# Altium footprint library EE490.PcbLib: 59 footprints (part 2 of 4)
Each footprint in its own frame and in the unit in brackets; x right, y up, seen from the top. Pads: shape width x height; smd on the part's side, far side on the other; paste and mask are expansions set on the pad; w line width, h text height; cw(c..) or ccw(c..) is an arc to the next point about the centre after c.
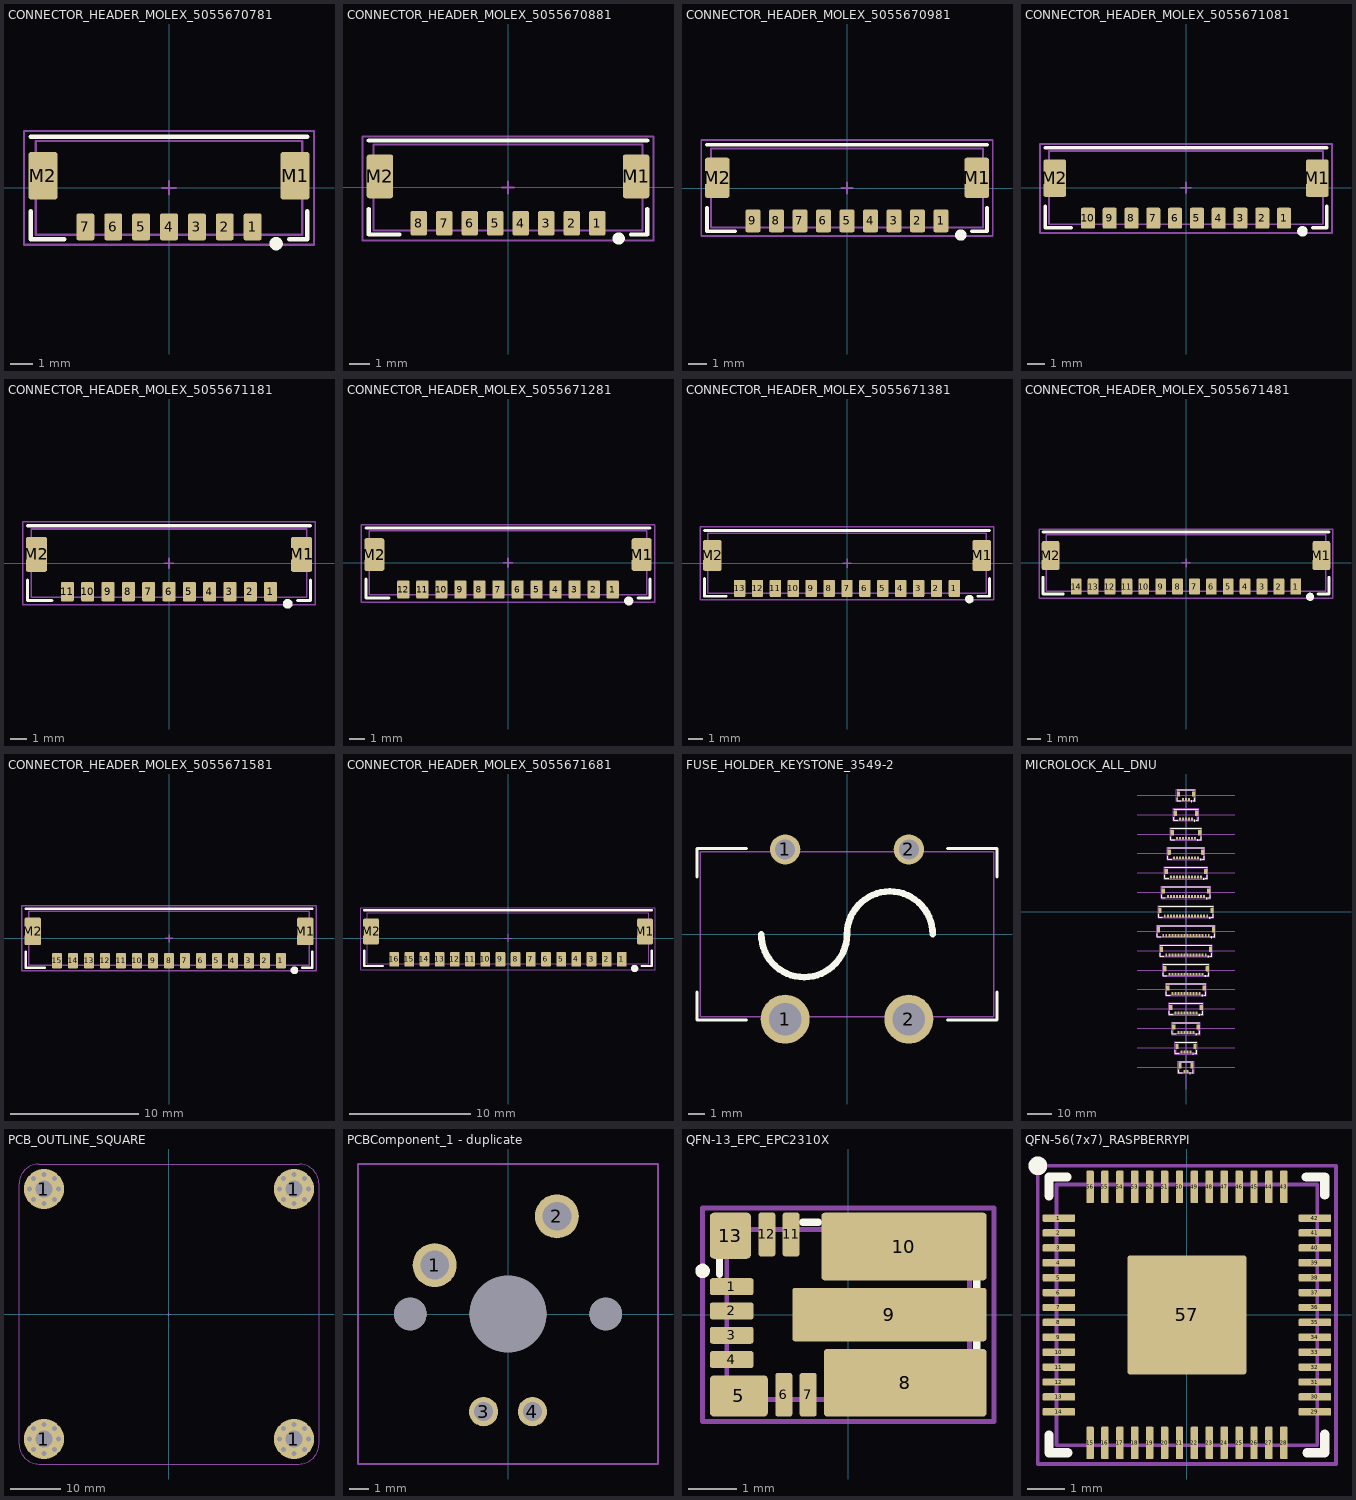
[diagram p1: the footprints below, top view; thin cyan lines are the x and y axes]

## CONNECTOR_HEADER_MOLEX_5055670781 [mm]
pads (9):
  rrect20% 0.8x1.2 smd: 1(3.75,-1.75) 2(2.5,-1.75) 3(1.25,-1.75) 4(0,-1.75) 5(-1.25,-1.75) 6(-2.5,-1.75) 7(-3.75,-1.75)
  rrect20% 1.3x2.15 smd mask+0.076: M1(5.65,0.545) M2(-5.65,0.545)
Top Overlay:
  circle w0.3: c4.8,-2.5 r0.15
  lines w0.2: -6.2,-1.05 -6.2,-2.3 -4.7,-2.3 ; -6.2,2.3 6.2,2.3 ; 5.4,-2.3 6.2,-2.3 6.2,-1.05
Top Component Center:
  lines w0.1: -0.3,0 0.3,0 ; 0,-0.3 0,0.3
Top Component Outline:
  lines w0.1: -5.975,-2.1 5.975,-2.1 5.975,2.1 -5.975,2.1 -5.975,-2.1
Top Designator:
  text ".Designator" at -7.589,-0.499 h1.5
Top Courtyard:
  lines w0.1: -6.5,-2.55 6.5,-2.55 6.5,2.55 -6.5,2.55 -6.5,-2.55

## CONNECTOR_HEADER_MOLEX_5055670881 [mm]
pads (10):
  rrect20% 0.8x1.2 smd: 1(4.375,-1.75) 2(3.125,-1.75) 3(1.875,-1.75) 4(0.625,-1.75) 5(-0.625,-1.75) 6(-1.875,-1.75) 7(-3.125,-1.75) 8(-4.375,-1.75)
  rrect20% 1.3x2.15 smd mask+0.076: M1(6.275,0.545) M2(-6.275,0.545)
Top Overlay:
  circle w0.3: c5.425,-2.5 r0.15
  lines w0.2: -6.825,-1.05 -6.825,-2.3 -5.325,-2.3 ; -6.825,2.3 6.825,2.3 ; 6.025,-2.3 6.825,-2.3 6.825,-1.05
Top Component Center:
  lines w0.1: -0.3,0 0.3,0 ; 0,-0.3 0,0.3
Top Component Outline:
  lines w0.1: -6.6,-2.1 6.6,-2.1 6.6,2.1 -6.6,2.1 -6.6,-2.1
Top Designator:
  text ".Designator" at -7.589,-0.499 h1.5
Top Courtyard:
  lines w0.1: -7.125,-2.6 7.125,-2.6 7.125,2.5 -7.125,2.5 -7.125,-2.6

## CONNECTOR_HEADER_MOLEX_5055670981 [mm]
pads (11):
  rrect20% 0.8x1.2 smd: 1(5,-1.75) 2(3.75,-1.75) 3(2.5,-1.75) 4(1.25,-1.75) 5(0,-1.75) 6(-1.25,-1.75) 7(-2.5,-1.75) 8(-3.75,-1.75) 9(-5,-1.75)
  rrect20% 1.3x2.15 smd mask+0.076: M1(6.9,0.545) M2(-6.9,0.545)
Top Overlay:
  circle w0.3: c6.05,-2.5 r0.15
  lines w0.2: -7.45,-1.05 -7.45,-2.3 -5.95,-2.3 ; -7.45,2.3 7.45,2.3 ; 6.65,-2.3 7.45,-2.3 7.45,-1.05
Top Component Center:
  lines w0.1: -0.3,0 0.3,0 ; 0,-0.3 0,0.3
Top Component Outline:
  lines w0.1: -7.225,-2.1 7.225,-2.1 7.225,2.1 -7.225,2.1 -7.225,-2.1
Top Designator:
  text ".Designator" at -7.589,-0.499 h1.5
Top Courtyard:
  lines w0.1: -7.75,-2.55 -7.75,2.55 7.75,2.55 7.75,-2.55 -7.75,-2.55

## CONNECTOR_HEADER_MOLEX_5055671081 [mm]
pads (12):
  rrect20% 0.8x1.2 smd: 1(5.625,-1.75) 2(4.375,-1.75) 3(3.125,-1.75) 4(1.875,-1.75) 5(0.625,-1.75) 6(-0.625,-1.75) 7(-1.875,-1.75) 8(-3.125,-1.75) 9(-4.375,-1.75) 10(-5.625,-1.75)
  rrect20% 1.3x2.15 smd mask+0.076: M1(7.525,0.545) M2(-7.525,0.545)
Top Overlay:
  circle w0.3: c6.675,-2.5 r0.15
  lines w0.2: -8.075,-1.05 -8.075,-2.3 -6.575,-2.3 ; -8.075,2.3 8.075,2.3 ; 7.275,-2.3 8.075,-2.3 8.075,-1.05
Top Component Center:
  lines w0.1: -0.3,0 0.3,0 ; 0,-0.3 0,0.3
Top Component Outline:
  lines w0.1: -7.85,-2.1 -7.85,2.1 7.85,2.1 7.85,-2.1 -7.85,-2.1
Top Designator:
  text ".Designator" at -7.589,-0.499 h1.5
Top Courtyard:
  lines w0.1: -8.375,-2.6 -8.375,2.5 8.375,2.5 8.375,-2.6 -8.375,-2.6

## CONNECTOR_HEADER_MOLEX_5055671181 [mm]
pads (13):
  rrect20% 0.8x1.2 smd: 1(6.25,-1.75) 2(5,-1.75) 3(3.75,-1.75) 4(2.5,-1.75) 5(1.25,-1.75) 6(0,-1.75) 7(-1.25,-1.75) 8(-2.5,-1.75) 9(-3.75,-1.75) 10(-5,-1.75) 11(-6.25,-1.75)
  rrect20% 1.3x2.15 smd mask+0.076: M1(8.15,0.545) M2(-8.15,0.545)
Top Overlay:
  circle w0.3: c7.3,-2.5 r0.15
  lines w0.2: -8.7,-1.05 -8.7,-2.3 -7.2,-2.3 ; -8.7,2.3 8.7,2.3 ; 7.9,-2.3 8.7,-2.3 8.7,-1.05
Top Component Center:
  lines w0.1: -0.3,0 0.3,0 ; 0,-0.3 0,0.3
Top Component Outline:
  lines w0.1: -8.475,-2.1 8.475,-2.1 8.475,2.1 -8.475,2.1 -8.475,-2.1
Top Designator:
  text ".Designator" at -7.589,-0.499 h1.5
Top Courtyard:
  lines w0.1: -9,-2.55 9,-2.55 9,2.55 -9,2.55 -9,-2.55

## CONNECTOR_HEADER_MOLEX_5055671281 [mm]
pads (14):
  rrect20% 0.8x1.2 smd: 1(6.875,-1.75) 2(5.625,-1.75) 3(4.375,-1.75) 4(3.125,-1.75) 5(1.875,-1.75) 6(0.625,-1.75) 7(-0.625,-1.75) 8(-1.875,-1.75) 9(-3.125,-1.75) 10(-4.375,-1.75) 11(-5.625,-1.75) 12(-6.875,-1.75)
  rrect20% 1.3x2.15 smd mask+0.076: M1(8.775,0.545) M2(-8.775,0.545)
Top Overlay:
  circle w0.3: c7.925,-2.5 r0.15
  lines w0.2: -9.325,-1.05 -9.325,-2.3 -7.825,-2.3 ; -9.325,2.3 9.325,2.3 ; 8.525,-2.3 9.325,-2.3 9.325,-1.05
Top Component Center:
  lines w0.1: -0.3,0 0.3,0 ; 0,-0.3 0,0.3
Top Component Outline:
  lines w0.1: -9.1,-2.1 -9.1,2.1 9.1,2.1 9.1,-2.1 -9.1,-2.1
Top Designator:
  text ".Designator" at -7.589,-0.499 h1.5
Top Courtyard:
  lines w0.1: -9.625,-2.6 -9.625,2.5 9.625,2.5 9.625,-2.6 -9.625,-2.6

## CONNECTOR_HEADER_MOLEX_5055671381 [mm]
pads (15):
  rrect20% 0.8x1.2 smd: 1(7.5,-1.75) 2(6.25,-1.75) 3(5,-1.75) 4(3.75,-1.75) 5(2.5,-1.75) 6(1.25,-1.75) 7(0,-1.75) 8(-1.25,-1.75) 9(-2.5,-1.75) 10(-3.75,-1.75) 11(-5,-1.75) 12(-6.25,-1.75) 13(-7.5,-1.75)
  rrect20% 1.3x2.15 smd mask+0.076: M1(9.4,0.545) M2(-9.4,0.545)
Top Overlay:
  circle w0.3: c8.55,-2.5 r0.15
  lines w0.2: -9.95,-1.05 -9.95,-2.3 -8.45,-2.3 ; -9.95,2.3 9.95,2.3 ; 9.15,-2.3 9.95,-2.3 9.95,-1.05
Top Component Center:
  lines w0.1: -0.3,0 0.3,0 ; 0,-0.3 0,0.3
Top Component Outline:
  lines w0.1: -9.725,-2.1 -9.725,2.1 9.725,2.1 9.725,-2.1 -9.725,-2.1
Top Designator:
  text ".Designator" at -7.589,-0.499 h1.5
Top Courtyard:
  lines w0.1: -10.25,-2.55 -10.25,2.55 10.25,2.55 10.25,-2.55 -10.25,-2.55

## CONNECTOR_HEADER_MOLEX_5055671481 [mm]
pads (16):
  rrect20% 0.8x1.2 smd: 1(8.125,-1.75) 2(6.875,-1.75) 3(5.625,-1.75) 4(4.375,-1.75) 5(3.125,-1.75) 6(1.875,-1.75) 7(0.625,-1.75) 8(-0.625,-1.75) 9(-1.875,-1.75) 10(-3.125,-1.75) 11(-4.375,-1.75) 12(-5.625,-1.75) 13(-6.875,-1.75) 14(-8.125,-1.75)
  rrect20% 1.3x2.15 smd mask+0.076: M1(10.025,0.545) M2(-10.025,0.545)
Top Overlay:
  circle w0.3: c9.175,-2.5 r0.15
  lines w0.2: -10.575,-1.05 -10.575,-2.3 -9.075,-2.3 ; -10.575,2.3 10.575,2.3 ; 9.775,-2.3 10.575,-2.3 10.575,-1.05
Top Component Center:
  lines w0.1: -0.3,0 0.3,0 ; 0,-0.3 0,0.3
Top Component Outline:
  lines w0.1: -10.35,-2.1 10.35,-2.1 10.35,2.1 -10.35,2.1 -10.35,-2.1
Top Designator:
  text ".Designator" at -7.589,-0.499 h1.5
Top Courtyard:
  lines w0.1: -10.875,-2.6 10.875,-2.6 10.875,2.5 -10.875,2.5 -10.875,-2.6

## CONNECTOR_HEADER_MOLEX_5055671581 [mm]
pads (17):
  rrect20% 0.8x1.2 smd: 1(8.75,-1.75) 2(7.5,-1.75) 3(6.25,-1.75) 4(5,-1.75) 5(3.75,-1.75) 6(2.5,-1.75) 7(1.25,-1.75) 8(0,-1.75) 9(-1.25,-1.75) 10(-2.5,-1.75) 11(-3.75,-1.75) 12(-5,-1.75) 13(-6.25,-1.75) 14(-7.5,-1.75) 15(-8.75,-1.75)
  rrect20% 1.3x2.15 smd mask+0.076: M1(10.65,0.545) M2(-10.65,0.545)
Top Overlay:
  circle w0.3: c9.8,-2.5 r0.15
  lines w0.2: -11.2,-1.05 -11.2,-2.3 -9.7,-2.3 ; -11.2,2.3 11.2,2.3 ; 10.4,-2.3 11.2,-2.3 11.2,-1.05
Top Component Center:
  lines w0.1: -0.3,0 0.3,0 ; 0,-0.3 0,0.3
Top Component Outline:
  lines w0.1: -10.975,-2.1 10.975,-2.1 10.975,2.1 -10.975,2.1 -10.975,-2.1
Top Designator:
  text ".Designator" at -7.589,-0.499 h1.5
Top Courtyard:
  lines w0.1: -11.5,-2.55 11.5,-2.55 11.5,2.55 -11.5,2.55 -11.5,-2.55

## CONNECTOR_HEADER_MOLEX_5055671681 [mm]
pads (18):
  rrect20% 0.8x1.2 smd: 1(9.375,-1.75) 2(8.125,-1.75) 3(6.875,-1.75) 4(5.625,-1.75) 5(4.375,-1.75) 6(3.125,-1.75) 7(1.875,-1.75) 8(0.625,-1.75) 9(-0.625,-1.75) 10(-1.875,-1.75) 11(-3.125,-1.75) 12(-4.375,-1.75) 13(-5.625,-1.75) 14(-6.875,-1.75) 15(-8.125,-1.75) 16(-9.375,-1.75)
  rrect20% 1.3x2.15 smd mask+0.076: M1(11.275,0.545) M2(-11.275,0.545)
Top Overlay:
  circle w0.3: c10.425,-2.5 r0.15
  lines w0.2: -11.825,-1.05 -11.825,-2.3 -10.325,-2.3 ; -11.825,2.3 11.825,2.3 ; 11.025,-2.3 11.825,-2.3 11.825,-1.05
Top Component Center:
  lines w0.1: -0.3,0 0.3,0 ; 0,-0.3 0,0.3
Top Component Outline:
  lines w0.1: -11.6,-2.1 11.6,-2.1 11.6,2.1 -11.6,2.1 -11.6,-2.1
Top Designator:
  text ".Designator" at -7.589,-0.499 h1.5
Top Courtyard:
  lines w0.1: -12.125,-2.6 12.125,-2.6 12.125,2.5 -12.125,2.5 -12.125,-2.6

## FUSE_HOLDER_KEYSTONE_3549-2 [mm]
height 5.8
pads (4):
  round 2.97 hole 1.98: 1(-3.75,-5.15) 2(3.75,-5.15)
  round 1.83 hole 1.22: 1(-3.75,5.15) 2(3.75,5.15)
Top Overlay:
  lines w0.2: -9.1,-3.5 -9.1,-5.2 -6.1,-5.2 ; -9.1,3.5 -9.1,5.2 -6.1,5.2 ; 6.1,-5.2 9.1,-5.2 9.1,-3.5 ; 6.1,5.2 9.1,5.2 9.1,3.5
  lines w0.4: -5.2,0 ccw(c-2.6,0) 0,0 cw(c2.6,0) 5.2,0
Top Component Outline:
  lines w0.1: -8.9,-5 -8.9,5 8.9,5 8.9,-5 -8.9,-5
3D body "3549-2--3DModel-STEP-630548 Color.stp": height 5.79, standoff -3.64, extent -9.085,-5.219 8.949,5.246

## MICROLOCK_ALL_DNU [mm]
pads (165):
  rrect20% 0.8x1.2 smd: 1(0.625,-65.75) 1(1.25,46.25) 1(1.875,-57.75) 1(2.5,38.25) 1(3.125,-49.75) 1(3.75,30.25) 1(4.375,-41.75) 1(5,22.25) 1(5.625,-33.75) 1(6.25,14.25) 1(6.875,-25.75) 1(7.5,6.25) 1(8.125,-17.75) 1(8.75,-1.75) 1(9.375,-9.75) 2(-0.625,-65.75) 2(0,46.25) 2(0.625,-57.75) 2(1.25,38.25) 2(1.875,-49.75) 2(2.5,30.25) 2(3.125,-41.75) 2(3.75,22.25) 2(4.375,-33.75) 2(5,14.25) 2(5.625,-25.75) 2(6.25,6.25) 2(6.875,-17.75) 2(7.5,-1.75) 2(8.125,-9.75) 3(-1.25,46.25) 3(-0.625,-57.75) 3(0,38.25) 3(0.625,-49.75) 3(1.25,30.25) 3(1.875,-41.75) 3(2.5,22.25) 3(3.125,-33.75) 3(3.75,14.25) 3(4.375,-25.75) 3(5,6.25) 3(5.625,-17.75) 3(6.25,-1.75) 3(6.875,-9.75) 4(-1.875,-57.75) 4(-1.25,38.25) 4(-0.625,-49.75) 4(0,30.25) 4(0.625,-41.75) 4(1.25,22.25) 4(1.875,-33.75) 4(2.5,14.25) 4(3.125,-25.75) 4(3.75,6.25) 4(4.375,-17.75) 4(5,-1.75) 4(5.625,-9.75) 5(-2.5,38.25) 5(-1.875,-49.75) 5(-1.25,30.25) 5(-0.625,-41.75) 5(0,22.25) 5(0.625,-33.75) 5(1.25,14.25) 5(1.875,-25.75) 5(2.5,6.25) 5(3.125,-17.75) 5(3.75,-1.75) 5(4.375,-9.75) 6(-3.125,-49.75) 6(-2.5,30.25) 6(-1.875,-41.75) 6(-1.25,22.25) 6(-0.625,-33.75) 6(0,14.25) 6(0.625,-25.75) 6(1.25,6.25) 6(1.875,-17.75) 6(2.5,-1.75) 6(3.125,-9.75) 7(-3.75,30.25) 7(-3.125,-41.75) 7(-2.5,22.25) 7(-1.875,-33.75) 7(-1.25,14.25) 7(-0.625,-25.75) 7(0,6.25) 7(0.625,-17.75) 7(1.25,-1.75) 7(1.875,-9.75) 8(-4.375,-41.75) 8(-3.75,22.25) 8(-3.125,-33.75) 8(-2.5,14.25) 8(-1.875,-25.75) 8(-1.25,6.25) 8(-0.625,-17.75) 8(0,-1.75) 8(0.625,-9.75) 9(-5,22.25) 9(-4.375,-33.75) 9(-3.75,14.25) 9(-3.125,-25.75) 9(-2.5,6.25) 9(-1.875,-17.75) 9(-1.25,-1.75) 9(-0.625,-9.75) 10(-5.625,-33.75) 10(-5,14.25) 10(-4.375,-25.75) 10(-3.75,6.25) 10(-3.125,-17.75) 10(-2.5,-1.75) 10(-1.875,-9.75) 11(-6.25,14.25) 11(-5.625,-25.75) 11(-5,6.25) 11(-4.375,-17.75) 11(-3.75,-1.75) 11(-3.125,-9.75) 12(-6.875,-25.75) 12(-6.25,6.25) 12(-5.625,-17.75) 12(-5,-1.75) 12(-4.375,-9.75) 13(-7.5,6.25) 13(-6.875,-17.75) 13(-6.25,-1.75) 13(-5.625,-9.75) 14(-8.125,-17.75) 14(-7.5,-1.75) 14(-6.875,-9.75) 15(-8.75,-1.75) 15(-8.125,-9.75) 16(-9.375,-9.75)
  rrect20% 1.3x2.15 smd mask+0.076: M1(2.525,-63.455) M1(3.15,48.545) M1(3.775,-55.455) M1(4.4,40.545) M1(5.025,-47.455) M1(5.65,32.545) M1(6.275,-39.455) M1(6.9,24.545) M1(7.525,-31.455) M1(8.15,16.545) M1(8.775,-23.455) M1(9.4,8.545) M1(10.025,-15.455) M1(10.65,0.545) M1(11.275,-7.455) M2(-11.275,-7.455) M2(-10.65,0.545) M2(-10.025,-15.455) M2(-9.4,8.545) M2(-8.775,-23.455) M2(-8.15,16.545) M2(-7.525,-31.455) M2(-6.9,24.545) M2(-6.275,-39.455) M2(-5.65,32.545) M2(-5.025,-47.455) M2(-4.4,40.545) M2(-3.775,-55.455) M2(-3.15,48.545) M2(-2.525,-63.455)
Top Overlay:
  circle w0.3: c1.675,-66.5 r0.15
  circle w0.3: c2.925,-58.5 r0.15
  circle w0.3: c5.425,-42.5 r0.15
  circle w0.3: c7.925,-26.5 r0.15
  circle w0.3: c9.175,-18.5 r0.15
  circle w0.3: c10.425,-10.5 r0.15
  circle w0.3: c3.55,37.5 r0.15
  circle w0.3: c8.55,5.5 r0.15
  circle w0.3: c9.8,-2.5 r0.15
  circle w0.3: c7.3,13.5 r0.15
  circle w0.3: c6.05,21.5 r0.15
  circle w0.3: c4.8,29.5 r0.15
  circle w0.3: c2.3,45.5 r0.15
  circle w0.3: c6.675,-34.5 r0.15
  circle w0.3: c4.175,-50.5 r0.15
  lines w0.2: -11.825,-9.05 -11.825,-10.3 -10.325,-10.3 ; -11.825,-5.7 11.825,-5.7 ; -11.2,-1.05 -11.2,-2.3 -9.7,-2.3 ; -11.2,2.3 11.2,2.3 ; -10.575,-17.05 -10.575,-18.3 -9.075,-18.3 ; -10.575,-13.7 10.575,-13.7 ; -9.95,6.95 -9.95,5.7 -8.45,5.7 ; -9.95,10.3 9.95,10.3 ; -9.325,-25.05 -9.325,-26.3 -7.825,-26.3 ; -9.325,-21.7 9.325,-21.7 ; -8.7,14.95 -8.7,13.7 -7.2,13.7 ; -8.7,18.3 8.7,18.3 ; -8.075,-33.05 -8.075,-34.3 -6.575,-34.3 ; -8.075,-29.7 8.075,-29.7 ; -7.45,22.95 -7.45,21.7 -5.95,21.7 ; -7.45,26.3 7.45,26.3 ; -6.825,-41.05 -6.825,-42.3 -5.325,-42.3 ; -6.825,-37.7 6.825,-37.7 ; -6.2,30.95 -6.2,29.7 -4.7,29.7 ; -6.2,34.3 6.2,34.3 ; -5.575,-49.05 -5.575,-50.3 -4.075,-50.3 ; -5.575,-45.7 5.575,-45.7 ; -4.95,38.95 -4.95,37.7 -3.45,37.7 ; -4.95,42.3 4.95,42.3 ; -4.325,-57.05 -4.325,-58.3 -2.825,-58.3 ; -4.325,-53.7 4.325,-53.7 ; -3.7,46.95 -3.7,45.7 -2.2,45.7 ; -3.7,50.3 3.7,50.3 ; -3.075,-65.05 -3.075,-66.3 -1.575,-66.3 ; -3.075,-61.7 3.075,-61.7 ; 2.275,-66.3 3.075,-66.3 3.075,-65.05 ; 2.9,45.7 3.7,45.7 3.7,46.95 ; 3.525,-58.3 4.325,-58.3 4.325,-57.05 ; 4.15,37.7 4.95,37.7 4.95,38.95 ; 4.775,-50.3 5.575,-50.3 5.575,-49.05 ; 5.4,29.7 6.2,29.7 6.2,30.95 ; 6.025,-42.3 6.825,-42.3 6.825,-41.05 ; 6.65,21.7 7.45,21.7 7.45,22.95 ; 7.275,-34.3 8.075,-34.3 8.075,-33.05 ; 7.9,13.7 8.7,13.7 8.7,14.95 ; 8.525,-26.3 9.325,-26.3 9.325,-25.05 ; 9.15,5.7 9.95,5.7 9.95,6.95 ; 9.775,-18.3 10.575,-18.3 10.575,-17.05 ; 10.4,-2.3 11.2,-2.3 11.2,-1.05 ; 11.025,-10.3 11.825,-10.3 11.825,-9.05
Top Component Center:
  lines w0.1: -0.3,-64 0.3,-64 ; -0.3,-56 0.3,-56 ; -0.3,-48 0.3,-48 ; -0.3,-40 0.3,-40 ; -0.3,-32 0.3,-32 ; -0.3,-24 0.3,-24 ; -0.3,-16 0.3,-16 ; -0.3,-8 0.3,-8 ; -0.3,0 0.3,0 ; -0.3,8 0.3,8 ; -0.3,16 0.3,16 ; -0.3,24 0.3,24 ; -0.3,32 0.3,32 ; -0.3,40 0.3,40 ; -0.3,48 0.3,48 ; 0,-64.3 0,-63.7 ; 0,-56.3 0,-55.7 ; 0,-48.3 0,-47.7 ; 0,-40.3 0,-39.7 ; 0,-32.3 0,-31.7 ; 0,-24.3 0,-23.7 ; 0,-16.3 0,-15.7 ; 0,-8.3 0,-7.7 ; 0,-0.3 0,0.3 ; 0,7.7 0,8.3 ; 0,15.7 0,16.3 ; 0,23.7 0,24.3 ; 0,31.7 0,32.3 ; 0,39.7 0,40.3 ; 0,47.7 0,48.3
Top Component Outline:
  lines w0.1: -11.6,-10.1 11.6,-10.1 11.6,-5.9 -11.6,-5.9 -11.6,-10.1 ; -10.975,-2.1 10.975,-2.1 10.975,2.1 -10.975,2.1 -10.975,-2.1 ; -10.35,-18.1 10.35,-18.1 10.35,-13.9 -10.35,-13.9 -10.35,-18.1 ; -9.725,5.9 9.725,5.9 9.725,10.1 -9.725,10.1 -9.725,5.9 ; -9.1,-26.1 9.1,-26.1 9.1,-21.9 -9.1,-21.9 -9.1,-26.1 ; -8.475,13.9 8.475,13.9 8.475,18.1 -8.475,18.1 -8.475,13.9 ; -7.85,-34.1 7.85,-34.1 7.85,-29.9 -7.85,-29.9 -7.85,-34.1 ; -7.225,21.9 7.225,21.9 7.225,26.1 -7.225,26.1 -7.225,21.9 ; -6.6,-42.1 6.6,-42.1 6.6,-37.9 -6.6,-37.9 -6.6,-42.1 ; -5.975,29.9 5.975,29.9 5.975,34.1 -5.975,34.1 -5.975,29.9 ; -5.35,-50.1 5.35,-50.1 5.35,-45.9 -5.35,-45.9 -5.35,-50.1 ; -4.725,37.9 4.725,37.9 4.725,42.1 -4.725,42.1 -4.725,37.9 ; -4.1,-58.1 4.1,-58.1 4.1,-53.9 -4.1,-53.9 -4.1,-58.1 ; -3.475,45.9 3.475,45.9 3.475,50.1 -3.475,50.1 -3.475,45.9 ; -2.85,-66.1 2.85,-66.1 2.85,-61.9 -2.85,-61.9 -2.85,-66.1
Top Designator:
  text ".Designator" at -7.589,-64.499 h1.5
  text ".Designator" at -7.589,-56.499 h1.5
  text ".Designator" at -7.589,-48.499 h1.5
  text ".Designator" at -7.589,-40.499 h1.5
  text ".Designator" at -7.589,-32.499 h1.5
  text ".Designator" at -7.589,-24.499 h1.5
  text ".Designator" at -7.589,-16.499 h1.5
  text ".Designator" at -7.589,-8.499 h1.5
  text ".Designator" at -7.589,47.501 h1.5
  text ".Designator" at -7.589,39.501 h1.5
  text ".Designator" at -7.589,31.501 h1.5
  text ".Designator" at -7.589,23.501 h1.5
  text ".Designator" at -7.589,15.501 h1.5
  text ".Designator" at -7.589,7.501 h1.5
  text ".Designator" at -7.589,-0.499 h1.5
Top Courtyard:
  lines w0.1: -12.125,-10.6 12.125,-10.6 12.125,-5.5 -12.125,-5.5 -12.125,-10.6 ; -11.5,-2.55 11.5,-2.55 11.5,2.55 -11.5,2.55 -11.5,-2.55 ; -10.875,-18.6 10.875,-18.6 10.875,-13.5 -10.875,-13.5 -10.875,-18.6 ; -10.25,5.45 10.25,5.45 10.25,10.55 -10.25,10.55 -10.25,5.45 ; -9.625,-26.6 9.625,-26.6 9.625,-21.5 -9.625,-21.5 -9.625,-26.6 ; -9,13.45 9,13.45 9,18.55 -9,18.55 -9,13.45 ; -8.375,-34.6 8.375,-34.6 8.375,-29.5 -8.375,-29.5 -8.375,-34.6 ; -7.75,21.45 7.75,21.45 7.75,26.55 -7.75,26.55 -7.75,21.45 ; -7.125,-42.6 7.125,-42.6 7.125,-37.5 -7.125,-37.5 -7.125,-42.6 ; -6.5,29.45 6.5,29.45 6.5,34.55 -6.5,34.55 -6.5,29.45 ; -5.875,-50.6 5.875,-50.6 5.875,-45.5 -5.875,-45.5 -5.875,-50.6 ; -5.25,37.45 5.25,37.45 5.25,42.55 -5.25,42.55 -5.25,37.45 ; -4.625,-58.6 4.625,-58.6 4.625,-53.5 -4.625,-53.5 -4.625,-58.6 ; -4,45.45 4,45.45 4,50.55 -4,50.55 -4,45.45 ; -3.375,-66.6 3.375,-66.6 3.375,-61.5 -3.375,-61.5 -3.375,-66.6
Top Guide:
  lines w0.1: -20,-64 20,-64 ; -20,-56 20,-56 ; -20,-48 20,-48 ; -20,-40 20,-40 ; -20,-32 20,-32 ; -20,-24 20,-24 ; -20,-16 20,-16 ; -20,-8 20,-8 ; -20,8 20,8 ; -20,16 20,16 ; -20,24 20,24 ; -20,32 20,32 ; -20,40 20,40 ; -20,48 20,48 ; 0,-73 0,0 0,50

## PCB_OUTLINE_SQUARE [mm]
pads (4):
  round 8 hole 3.4: 1(-25,-25) 1(-25,25) 1(25,-25) 1(25,25)
via 27.051,-22.949 diameter 1.4 hole 1
via 25,-27.9 diameter 1.4 hole 1
via 22.949,-27.051 diameter 1.4 hole 1
via 25,-22.1 diameter 1.4 hole 1
via 27.051,-27.051 diameter 1.4 hole 1
via 22.1,-25 diameter 1.4 hole 1
via 22.949,-22.949 diameter 1.4 hole 1
via 27.9,-25 diameter 1.4 hole 1
via -22.949,-27.051 diameter 1.4 hole 1
via -27.9,-25 diameter 1.4 hole 1
via -27.051,-22.949 diameter 1.4 hole 1
via -22.1,-25 diameter 1.4 hole 1
via -27.051,-27.051 diameter 1.4 hole 1
via -25,-22.1 diameter 1.4 hole 1
via -22.949,-22.949 diameter 1.4 hole 1
via -25,-27.9 diameter 1.4 hole 1
via -27.051,22.949 diameter 1.4 hole 1
via -25,27.9 diameter 1.4 hole 1
via -22.949,27.051 diameter 1.4 hole 1
via -25,22.1 diameter 1.4 hole 1
via -27.051,27.051 diameter 1.4 hole 1
via -22.1,25 diameter 1.4 hole 1
via -22.949,22.949 diameter 1.4 hole 1
via -27.9,25 diameter 1.4 hole 1
via 22.949,27.051 diameter 1.4 hole 1
via 27.9,25 diameter 1.4 hole 1
via 27.051,22.949 diameter 1.4 hole 1
via 22.1,25 diameter 1.4 hole 1
via 27.051,27.051 diameter 1.4 hole 1
via 25,22.1 diameter 1.4 hole 1
via 22.949,22.949 diameter 1.4 hole 1
via 25,27.9 diameter 1.4 hole 1
Board Shape:
  lines w0.1: -30,-26 ccw(c-26,-26) -26,-30 26,-30 ccw(c26,-26) 30,-26 30,26 ccw(c26,26) 26,30 -26,30 ccw(c-26,26) -30,26 -30,-26
Top Component Center:
  lines w0.1: -0.3,0 0.3,0 ; 0,-0.3 0,0.3
Top Designator:
  text ".Designator" at -24.992,-1.666 h5

## PCBComponent_1 - duplicate [mil]
pads (7):
  round 90 hole 59 paste-40.5 mask+0: 1(-150,100) 2(100,200)
  round 60 hole 39 paste-40.5 mask+0: 3(-50,-200) 4(50,-200)
  round 67 hole 67 paste-44.5 mask-44.5: ""(-200,0) ""(200,0)
  round 157 hole 157 unplated paste-80.5 mask-80.5: ""(0,0)
Top Component Center:
  lines w3.94: -11.81,0 11.81,0 ; 0,-11.81 0,11.81
Top Component Outline:
  lines w3.94: -307.09,-307.09 307.09,-307.09 307.09,307.09 -307.09,307.09 -307.09,-307.09
Top Designator:
  text ".Designator" at -393.57,-26.24 h78.74
3D body "MX-Color.stp": height 645.67, standoff -86.61, extent -307.09,-307.09 307.09,307.09

## QFN-13_EPC_EPC2310X [mm]
height 0.7
pads (53):
  rrect30% 0.9x0.35 smd paste-1 mask-1: 1(-2.401,0.576) 2(-2.401,0.076) 3(-2.401,-0.424) 4(-2.401,-0.924)
  rrect20% 1.2x0.85 smd paste-1 mask-1: 5(-2.251,-1.674)
  rrect30% 0.35x0.9 smd paste-1 mask-1: 6(-1.326,-1.649) 7(-0.826,-1.649) 11(-1.176,1.651) 12(-1.676,1.651)
  rrect10% 3.35x1.395 smd paste-1 mask-1: 8(1.174,-1.401)
  rrect10% 4x1.1 smd paste-1 mask-1: 9(0.849,0.002)
  rrect10% 3.4x1.395 smd paste-1 mask-1: 10(1.149,1.403)
  rrect20% 0.85x0.95 smd paste-1 mask-1: 13(-2.426,1.626)
  rrect50% 0.52x0.3 on Top Solder paste-1 mask-1: ""(-2.303,-0.924) ""(-2.303,-0.424) ""(-2.303,0.076) ""(-2.303,0.576)
  rrect50% 0.4x0.25 on Top Paste paste-1 mask-1: ""(-2.301,-0.424) ""(-2.301,0.576) ""(-2.301,-0.924) ""(-2.301,0.076)
  rrect50% 0.535x0.3 on Top Solder paste-1 mask-1: ""(-2.301,1.426)
  rrect50% 0.45x0.375 on Top Paste paste-1 mask-1: ""(-2.256,1.471)
  rrect50% 0.3x0.535 on Top Solder paste-1 mask-1: ""(-2.176,1.544)
  rrect50% 0.888x0.3 on Top Solder paste-1 mask-1: ""(-2.12,-1.424)
  rrect50% 0.795x0.3 on Top Paste paste-1 mask-1: ""(-2.083,-1.448)
  rrect50% 0.3x0.52 on Top Solder paste-1 mask-1: ""(-1.826,-1.549) ""(-1.676,1.551) ""(-1.326,-1.549) ""(-1.176,1.551) ""(-0.826,-1.549) ""(-0.326,-1.549) ""(-0.326,1.551) ""(0.174,-1.549) ""(0.174,1.551) ""(0.674,-1.549) ""(0.674,1.551) ""(1.174,-1.549) ""(1.174,1.551) ""(1.674,-1.549) ""(1.674,1.551) ""(2.174,-1.549) ""(2.174,1.551)
  rrect50% 0.25x0.4 on Top Paste paste-1 mask-1: ""(-1.676,1.551) ""(-1.326,-1.549) ""(-1.176,1.551) ""(-0.826,-1.549)
  rrect50% 3.405x0.48 on Top Solder paste-1 mask-1: ""(0.809,0.002)
  rrect50% 3.355x0.43 on Top Paste paste-1 mask-1: ""(0.821,0.001)
  rrect50% 3x0.59 on Top Solder paste-1 mask-1: ""(1.023,-1.309) ""(1.023,1.311)
  rrect50% 2.95x0.6 on Top Paste paste-1 mask-1: ""(1.034,-1.374) ""(1.034,1.376)
Top Overlay:
  circle w0.2: c-3,0.9 r0.05
  lines w0.15: -2.651,0.829 -2.651,1.186 ; -2.649,-1.649 -2.649,-1.899 -2.114,-1.899 ; -0.934,1.901 -0.616,1.901 ; 2.399,-1.899 2.649,-1.899 ; 2.399,1.901 2.649,1.901 ; 2.649,-0.874 2.649,-0.349 ; 2.649,0.351 2.649,0.876
Top Component Center:
  lines w0.1: -0.3,0 0.3,0 ; 0,-0.3 0,0.3
Top Component Outline:
  drawing of 154 lines, arcs and shapes, not listed
Top Designator:
  text ".Designator" at -7.589,-0.499 h1.5
Top Courtyard:
  lines w0.1: -3,-2.2 3,-2.2 3,2.2 -3,2.2 -3,-2.2
3D body "D0727.step": height 0.56, standoff -0.05, extent -2.502,-1.75 2.5,1.75

## QFN-56(7x7)_RASPBERRYPI [mm]
height 0.8
pads (57):
  rrect30% 0.875x0.2 smd mask+0: 1(-3.435,2.6) 2(-3.435,2.2) 3(-3.435,1.8) 4(-3.435,1.4) 5(-3.435,1) 6(-3.435,0.6) 7(-3.435,0.2) 8(-3.435,-0.2) 9(-3.435,-0.6) 10(-3.435,-1) 11(-3.435,-1.4) 12(-3.435,-1.8) 13(-3.435,-2.2) 14(-3.435,-2.6) 29(3.435,-2.6) 30(3.435,-2.2) 31(3.435,-1.8) 32(3.435,-1.4) 33(3.435,-1) 34(3.435,-0.6) 35(3.435,-0.2) 36(3.435,0.2) 37(3.435,0.6) 38(3.435,1) 39(3.435,1.4) 40(3.435,1.8) 41(3.435,2.2) 42(3.435,2.6)
  rrect30% 0.2x0.875 smd mask+0: 15(-2.6,-3.435) 16(-2.2,-3.435) 17(-1.8,-3.435) 18(-1.4,-3.435) 19(-1,-3.435) 20(-0.6,-3.435) 21(-0.2,-3.435) 22(0.2,-3.435) 23(0.6,-3.435) 24(1,-3.435) 25(1.4,-3.435) 26(1.8,-3.435) 27(2.2,-3.435) 28(2.6,-3.435) 43(2.6,3.435) 44(2.2,3.435) 45(1.8,3.435) 46(1.4,3.435) 47(1,3.435) 48(0.6,3.435) 49(0.2,3.435) 50(-0.2,3.435) 51(-0.6,3.435) 52(-1,3.435) 53(-1.4,3.435) 54(-1.8,3.435) 55(-2.2,3.435) 56(-2.6,3.435)
  rrect5% 3.2x3.2 smd paste-0.57: 57(0,0)
Top Overlay:
  circle w0.4: c-4,4 r0.05
  lines w0.25: -3.7,-3.22 -3.7,-3.7 -3.2,-3.7 ; -3.7,3.2 -3.7,3.7 -3.22,3.7 ; 3.2,3.7 3.7,3.7 3.7,3.22 ; 3.22,-3.7 3.7,-3.7 3.7,-3.2
Top Component Center:
  lines w0.1: -0.3,0 0.3,0 ; 0,-0.3 0,0.3
Top Component Outline:
  lines w0.1: -3.5,-3.5 3.5,-3.5 3.5,3.5 -3.5,3.5 -3.5,-3.5
Top Designator:
  text ".Designator" at -7.498,-0.5 h1.5
Top Courtyard:
  lines w0.1: -4,-4 4,-4 4,4 -4,4 -4,-4
3D body "RP2040-Color.stp": height 0.9, standoff 0, extent -3.5,-3.5 3.5,3.5